# Altium integrated library 2STF1360.IntLib: 1 symbol
Pins are listed as number, name and electrical type; pins without a type are passive.

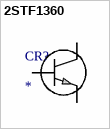
[diagram p0: symbol 2STF1360]

## 2STF1360
designator CR?
No Description Available; Mfr_Name: STMicroelectronics
footprint SOT-89_STM
footprint SOT-89_STM
pins: 1 B, 2 C, 3 E